# EAGLE library part RELAYIMG (library Jim)
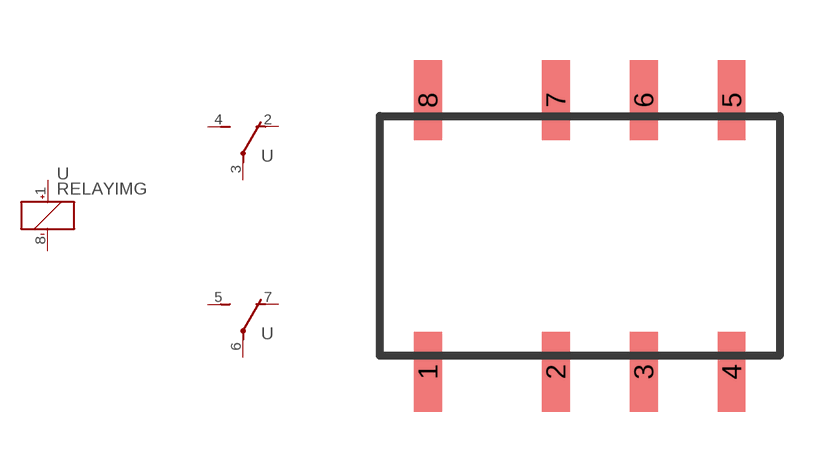
[diagram p23: symbol with the pads of RELAYIM; footprint RELAYIM]

Designator prefix -; gates G$1=U G$2=U G$3=K+-

## RELAYIMG  [RELAYIM]
1  G$3:+  pas
2  G$1:O  pas
3  G$1:P  pas
4  G$1:S  pas
5  G$2:S  pas
6  G$2:P  pas
7  G$2:O  pas
8  G$3:-  pas

## Footprint RELAYIM (pad centres in mm)
smd 0.7 x 2: 1 -3.8,-3.4; 2 -0.6,-3.4; 3 1.6,-3.4; 4 3.8,-3.4; 5 3.8,3.4; 6 1.6,3.4; 7 -0.6,3.4; 8 -3.8,3.4